# EAGLE library part I-07639_ＰＩＣ１２Ｆ１５０１ (library Akizuki)
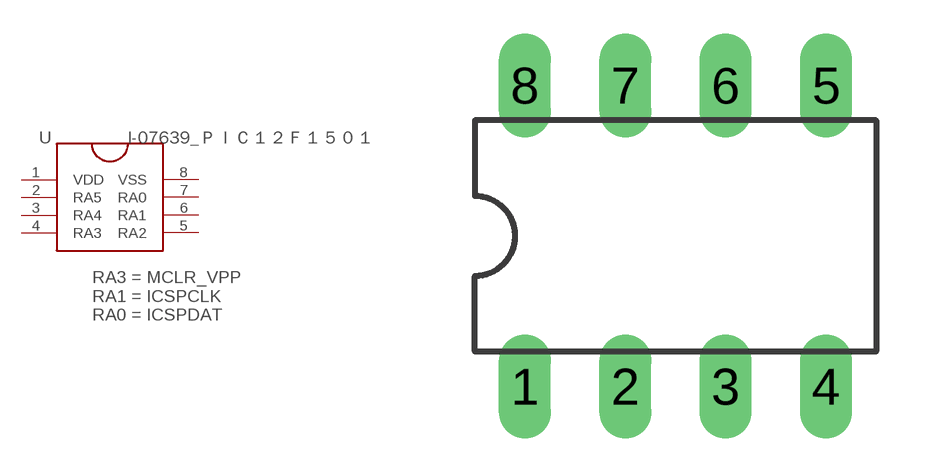
[diagram p21: symbol with the pads of DIL08; footprint DIL08]

Designator prefix -

## I-07639_ＰＩＣ１２Ｆ１５０１  [DIL08]
1  VDD
2  RA5
3  RA4
4  RA3
5  RA2
6  RA1
7  RA0
8  VSS

## Footprint DIL08 (pad centres in mm)
Dual In Line Package
drill 0.813 long: 1 -3.81,-3.81; 2 -1.27,-3.81; 3 1.27,-3.81; 4 3.81,-3.81; 5 3.81,3.81; 6 1.27,3.81; 7 -1.27,3.81; 8 -3.81,3.81